# Altium footprint library AD-FMComms3_revA.PcbLib: 27 footprints (part 1 of 2)
Each footprint in its own frame and in the unit in brackets; x right, y up, seen from the top. Pads: shape width x height; smd on the part's side, far side on the other; paste and mask are expansions set on the pad; w line width, h text height; cw(c..) or ccw(c..) is an arc to the next point about the centre after c.
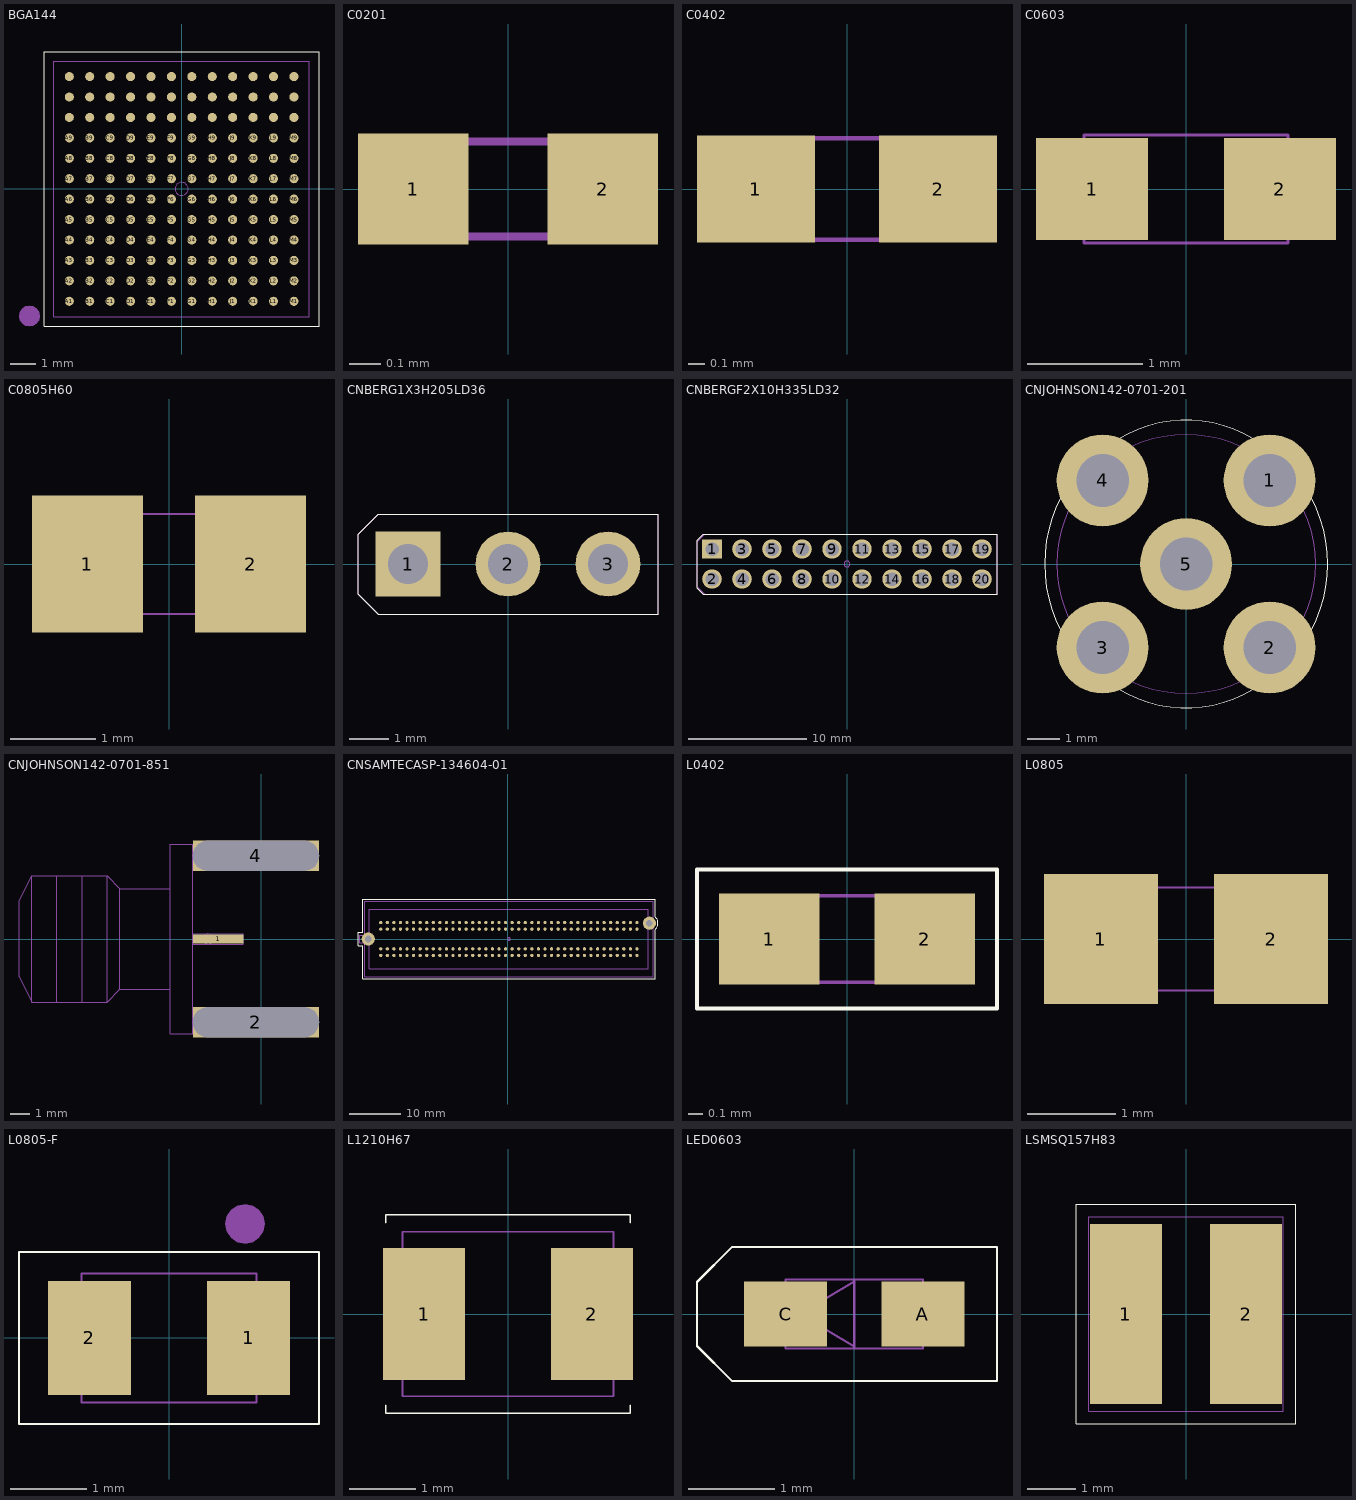
[diagram p0: the footprints below, top view; thin cyan lines are the x and y axes]

## BGA144 [mil] "BGA144"
pads (144):
  round 14 smd: A1(-173.23,-173.23) A2(-173.23,-141.73) A3(-173.23,-110.24) A4(-173.23,-78.74) A5(-173.23,-47.24) A6(-173.23,-15.75) A7(-173.23,15.75) A8(-173.23,47.24) A9(-173.23,78.74) A10(-173.23,110.24) A11(-173.23,141.73) A12(-173.23,173.23) B1(-141.73,-173.23) B2(-141.73,-141.73) B3(-141.73,-110.24) B4(-141.73,-78.74) B5(-141.73,-47.24) B6(-141.73,-15.75) B7(-141.73,15.75) B8(-141.73,47.24) B9(-141.73,78.74) B10(-141.73,110.24) B11(-141.73,141.73) B12(-141.73,173.23) C1(-110.24,-173.23) C2(-110.24,-141.73) C3(-110.24,-110.24) C4(-110.24,-78.74) C5(-110.24,-47.24) C6(-110.24,-15.75) C7(-110.24,15.75) C8(-110.24,47.24) C9(-110.24,78.74) C10(-110.24,110.24) C11(-110.24,141.73) C12(-110.24,173.23) D1(-78.74,-173.23) D2(-78.74,-141.73) D3(-78.74,-110.24) D4(-78.74,-78.74) D5(-78.74,-47.24) D6(-78.74,-15.75) D7(-78.74,15.75) D8(-78.74,47.24) D9(-78.74,78.74) D10(-78.74,110.24) D11(-78.74,141.73) D12(-78.74,173.23) E1(-47.24,-173.23) E2(-47.24,-141.73) E3(-47.24,-110.24) E4(-47.24,-78.74) E5(-47.24,-47.24) E6(-47.24,-15.75) E7(-47.24,15.75) E8(-47.24,47.24) E9(-47.24,78.74) E10(-47.24,110.24) E11(-47.24,141.73) E12(-47.24,173.23) F1(-15.75,-173.23) F2(-15.75,-141.73) F3(-15.75,-110.24) F4(-15.75,-78.74) F5(-15.75,-47.24) F6(-15.75,-15.75) F7(-15.75,15.75) F8(-15.75,47.24) F9(-15.75,78.74) F10(-15.75,110.24) F11(-15.75,141.73) F12(-15.75,173.23) G1(15.75,-173.23) G2(15.75,-141.73) G3(15.75,-110.24) G4(15.75,-78.74) G5(15.75,-47.24) G6(15.75,-15.75) G7(15.75,15.75) G8(15.75,47.24) G9(15.75,78.74) G10(15.75,110.24) G11(15.75,141.73) G12(15.75,173.23) H1(47.24,-173.23) H2(47.24,-141.73) H3(47.24,-110.24) H4(47.24,-78.74) H5(47.24,-47.24) H6(47.24,-15.75) H7(47.24,15.75) H8(47.24,47.24) H9(47.24,78.74) H10(47.24,110.24) H11(47.24,141.73) H12(47.24,173.23) J1(78.74,-173.23) J2(78.74,-141.73) J3(78.74,-110.24) J4(78.74,-78.74) J5(78.74,-47.24) J6(78.74,-15.75) J7(78.74,15.75) J8(78.74,47.24) J9(78.74,78.74) J10(78.74,110.24) J11(78.74,141.73) J12(78.74,173.23) K1(110.24,-173.23) K2(110.24,-141.73) K3(110.24,-110.24) K4(110.24,-78.74) K5(110.24,-47.24) K6(110.24,-15.75) K7(110.24,15.75) K8(110.24,47.24) K9(110.24,78.74) K10(110.24,110.24) K11(110.24,141.73) K12(110.24,173.23) L1(141.73,-173.23) L2(141.73,-141.73) L3(141.73,-110.24) L4(141.73,-78.74) L5(141.73,-47.24) L6(141.73,-15.75) L7(141.73,15.75) L8(141.73,47.24) L9(141.73,78.74) L10(141.73,110.24) L11(141.73,141.73) L12(141.73,173.23) M1(173.23,-173.23) M2(173.23,-141.73) M3(173.23,-110.24) M4(173.23,-78.74) M5(173.23,-47.24) M6(173.23,-15.75) M7(173.23,15.75) M8(173.23,47.24) M9(173.23,78.74) M10(173.23,110.24) M11(173.23,141.73) M12(173.23,173.23)
Top Overlay:
  lines w1: -211.85,-211.85 211.85,-211.85 211.85,211.85 -211.85,211.85 -211.85,-211.85
Top Component Center:
  circle w1: c0,0 r10
Mechanical34:
  text "K5" at 110.24,-67.24 h25
  text "F12" at -15.75,143.23 h25
  text "M9" at 173.23,58.74 h25
  text "M10" at 173.23,80.24 h25
  text "A9" at -173.23,58.74 h25
  text "A10" at -173.23,80.24 h25
  text "D2" at -78.74,-161.73 h25
  text "D3" at -78.74,-130.24 h25
  text "E3" at -47.24,-130.24 h25
  text "K4" at 110.24,-98.74 h25
  text "E2" at -47.24,-161.73 h25
  text "F2" at -15.75,-161.73 h25
  text "K3" at 110.24,-130.24 h25
  text "J3" at 78.74,-130.24 h25
  text "B9" at -141.73,58.74 h25
  text "B10" at -141.73,80.24 h25
  text "M11" at 173.23,111.73 h25
  text "B8" at -141.73,27.24 h25
  text "G2" at 15.75,-161.73 h25
  text "G3" at 15.75,-130.24 h25
  text "L4" at 141.73,-98.74 h25
  text "A11" at -173.23,111.73 h25
  text "B11" at -141.73,111.73 h25
  text "A5" at -173.23,-67.24 h25
  text "M5" at 173.23,-67.24 h25
  text "H9" at 47.24,58.74 h25
  text "A12" at -173.23,143.23 h25
  text "E7" at -47.24,-4.25 h25
  text "F8" at -15.75,27.24 h25
  text "D7" at -78.74,-4.25 h25
  text "E8" at -47.24,27.24 h25
  text "D8" at -78.74,27.24 h25
  text "E9" at -47.24,58.74 h25
  text "D9" at -78.74,58.74 h25
  text "E10" at -47.24,80.24 h25
  text "D10" at -78.74,80.24 h25
  text "E11" at -47.24,111.73 h25
  text "D11" at -78.74,111.73 h25
  text "E12" at -47.24,143.23 h25
  text "G7" at 15.75,-4.25 h25
  text "G1" at 15.75,-193.23 h25
  text "H8" at 47.24,27.24 h25
  text "J7" at 78.74,-4.25 h25
  text "J8" at 78.74,27.24 h25
  text "K7" at 110.24,-4.25 h25
  text "J9" at 78.74,58.74 h25
  text "K8" at 110.24,27.24 h25
  text "J10" at 78.74,80.24 h25
  text "K9" at 110.24,58.74 h25
  text "J11" at 78.74,111.73 h25
  text "K10" at 110.24,80.24 h25
  text "J12" at 78.74,143.23 h25
  text "K11" at 110.24,111.73 h25
  text "G10" at 15.75,80.24 h25
  text "H11" at 47.24,111.73 h25
  text "C3" at -110.24,-130.24 h25
  text "B3" at -141.73,-130.24 h25
  text "L5" at 141.73,-67.24 h25
  text "M3" at 173.23,-130.24 h25
  text "A3" at -173.23,-130.24 h25
  text "G9" at 15.75,58.74 h25
  text "A8" at -173.23,27.24 h25
  text "A7" at -173.23,-4.25 h25
  text "M7" at 173.23,-4.25 h25
  text "M8" at 173.23,27.24 h25
  text "G8" at 15.75,27.24 h25
  text "A2" at -173.23,-161.73 h25
  text "A1" at -173.23,-193.23 h25
  text "M1" at 173.23,-193.23 h25
  text "M2" at 173.23,-161.73 h25
  text "B4" at -141.73,-98.74 h25
  text "B5" at -141.73,-67.24 h25
  text "B6" at -141.73,-35.75 h25
  text "B7" at -141.73,-4.25 h25
  text "F10" at -15.75,80.24 h25
  text "G11" at 15.75,111.73 h25
  text "G4" at 15.75,-98.74 h25
  text "F4" at -15.75,-98.74 h25
  text "F5" at -15.75,-67.24 h25
  text "F6" at -15.75,-35.75 h25
  text "E6" at -47.24,-35.75 h25
  text "E5" at -47.24,-67.24 h25
  text "E4" at -47.24,-98.74 h25
  text "D4" at -78.74,-98.74 h25
  text "D5" at -78.74,-67.24 h25
  text "D6" at -78.74,-35.75 h25
  text "C6" at -110.24,-35.75 h25
  text "C5" at -110.24,-67.24 h25
  text "J6" at 78.74,-35.75 h25
  text "H5" at 47.24,-67.24 h25
  text "M12" at 173.23,143.23 h25
  text "H12" at 47.24,143.23 h25
  text "H4" at 47.24,-98.74 h25
  text "K6" at 110.24,-35.75 h25
  text "L6" at 141.73,-35.75 h25
  text "J4" at 78.74,-98.74 h25
  text "J5" at 78.74,-67.24 h25
  text "F11" at -15.75,111.73 h25
  text "L1" at 141.73,-193.23 h25
  text "H3" at 47.24,-130.24 h25
  text "L7" at 141.73,-4.25 h25
  text "H10" at 47.24,80.24 h25
  text "K12" at 110.24,143.23 h25
  text "F7" at -15.75,-4.25 h25
  text "G12" at 15.75,143.23 h25
  text "C12" at -110.24,143.23 h25
  text "B12" at -141.73,143.23 h25
  text "D12" at -78.74,143.23 h25
  text "C11" at -110.24,111.73 h25
  text "C10" at -110.24,80.24 h25
  text "C9" at -110.24,58.74 h25
  text "M4" at 173.23,-98.74 h25
  text "L2" at 141.73,-161.73 h25
  text "K2" at 110.24,-161.73 h25
  text "H2" at 47.24,-161.73 h25
  text "M6" at 173.23,-35.75 h25
  text "L11" at 141.73,111.73 h25
  text "H7" at 47.24,-4.25 h25
  text "L12" at 141.73,143.23 h25
  text "L8" at 141.73,27.24 h25
  text "L9" at 141.73,58.74 h25
  text "J1" at 78.74,-193.23 h25
  text "J2" at 78.74,-161.73 h25
  text "F1" at -15.75,-193.23 h25
  text "E1" at -47.24,-193.23 h25
  text "C7" at -110.24,-4.25 h25
  text "A6" at -173.23,-35.75 h25
  text "F9" at -15.75,58.74 h25
  text "B1" at -141.73,-193.23 h25
  text "B2" at -141.73,-161.73 h25
  text "C2" at -110.24,-161.73 h25
  text "C4" at -110.24,-98.74 h25
  text "F3" at -15.75,-130.24 h25
  text "L3" at 141.73,-130.24 h25
  text "K1" at 110.24,-193.23 h25
  text "H6" at 47.24,-35.75 h25
  text "C8" at -110.24,27.24 h25
  text "L10" at 141.73,80.24 h25
  text "C1" at -110.24,-193.23 h25
  text "H1" at 47.24,-193.23 h25
  text "D1" at -78.74,-193.23 h25
  text "A4" at -173.23,-98.74 h25
  text "G5" at 15.75,-67.24 h25
  text "G6" at 15.75,-35.75 h25
Mechanical39:
  text "BGA144" at 0,372.13 h50
  text "C14" at -15.75,-520.63 h50
  text "VIA1206" at -15.75,-675.43 h50
Top Assembly:
  dashed: -234.74,-179.97 -228.6,-181.19 -223.39,-184.67 -219.91,-189.88 -218.68,-196.03 -219.91,-202.17 -221.07,-203.92 -223.39,-207.38 -228.6,-210.86 -234.74,-212.08 -240.88,-210.86 -246.09,-207.38 -248.41,-203.92 -249.57,-202.17 -250.8,-196.03 -249.57,-189.88 -246.09,-184.67 -240.88,-181.19
  lines w1: -196.85,-196.85 196.85,-196.85 196.85,196.85 -196.85,196.85 -196.85,-196.85
  text "AD9361BBCZ" at 0,-50 h25
  text ".Designator" at -23.5,-82.5 h50
  text "UPN" at 0,-230 h25
Top Component Outline:
  text "16JUL08" at -433.07,-76.9 h30.98
  text "ADI/LCL" at -474.22,-74.43 h30.98
  text "QA/MER" at 442.91,-84.19 h30.98
  text "18JUL08" at 483.5,-97.16 h30.98
  text "QA/JMTG" at 550.68,-96.58 h30.98
  text "22JUN09" at 597.18,-97.16 h30.98
Mechanical45:
  text "USED A .010\" LINE WIDTH AND VIA1206 FOR FANOUTS" at 19.69,-1059.07 h25
  text "VIA SIZE AND LINE WIDTH CAN BE INCREASED / DECREASED" at 8.91,-1152.61 h25
  text "AT THE DISCRETION OF THE DESIGNER" at -13.83,-1005.24 h25

## C0201 [mil] "C0201"
pads (2):
  rect 14x14 smd: 1(-12,0) 2(12,0)
Mechanical34:
  text "2" at 12,10 h25
  text "1" at -12,10 h25
Mechanical39:
  text "C0201" at 11,197 h50
  text "14X14" at 7.6,-24 h50
Top Assembly:
  lines w1: -12,-6 -12,6 12,6 12,-6 -12,-6
  text "0.1uF" at -10.2,50 h25
  text "10" at 35,20 h25
  text "UPN" at 65,30 h25
Top Component Outline:
  text "ADI/DML" at -160,86.8 h31
  text "10XXX09" at 185,86.8 h31
  text "14JAN09" at -115,86.8 h31
  text "QA/XXX" at 145,74.4 h31

## C0402 [mil] "C0402"
pads (2):
  rect 27.5x25 smd: 1(-21.25,0) 2(21.25,0)
Mechanical34:
  text "1" at -21.25,-10 h25
  text "2" at 21.25,-10 h25
Mechanical39:
  text "27.5x25x15" at 0,-254 h31
  text "C0402" at -5,-5 h50
Top Assembly:
  lines w1: -21.65,-11.81 -21.65,11.81 21.65,11.81 21.65,-11.81 -21.65,-11.81
  text "UPN" at 0.79,-98.5 h25
  text "10" at 4.72,-73.94 h25
  text ".Designator" at -87.5,-126.75 h31
  text "1uF" at 4.33,-44.17 h25

## C0603 [mil] "C0603"
pads (2):
  rect 38.5x35 smd: 1(-32.25,0) 2(32.25,0)
Mechanical34:
  text "2" at 32.25,-10 h25
  text "1" at -32.25,-10 h25
Mechanical39:
  text "C0603a" at -5,-25 h50
  text "38.5x35x26" at 0,-230 h25
Top Assembly:
  lines w1: -35,-18.5 35,-18.5 35,18.5 -35,18.5 -35,-18.5
  text "10UF" at 2,-51 h25
  text ".Designator" at -17.5,5.73 h31
  text "20" at -70,-20 h25
  text "UPN" at 124,-31 h25

## C0805H60 [mil] "C0805H60"
pads (2):
  rect 51x63 smd: 1(-37.5,0) 2(37.5,0)
Mechanical34:
  text "1" at -27.5,0 h25
  text "2" at 47.5,0 h25
Mechanical39:
  text "51X63" at 100,-125 h50
  text "C0805H60" at 162,127.3 h50
Top Assembly:
  lines w1: -43,-23 -4,-23 43,-23 43,23 -43,23 -43,-23
  text "UPN" at 90,0 h25
  text "10" at 50,0 h25
  text "47uF" at 5,0 h25
Top Component Outline:
  text "08OCT98" at 286.8,0 h31
  text "QA/AA" at 220.4,2 h31
  text "CEXI/CWB" at -75.8,0 h31
  text "21SEP98" at -48.9,3 h31

## CNBERG1X3H205LD36 [mil] "CNBERG1X3H205LD36"
pads (3):
  rect 65x65 / inner round 65 / far side rect 65x65 hole 40: 1(-100,0)
  round 65 hole 40: 2(0,0) 3(100,0)
Top Overlay:
  lines w1: -150,-30 -150,30 -130,50 150,50 150,-50 -130,-50 -150,-30
Mechanical34:
  text "1" at -110,0 h25
  text "3" at 90,0 h25
  text "2" at -10,0 h25
Mechanical39:
  text "CNBERG1X3H205LD36" at -295,125 h50
  text "C65D40" at -65,-220 h50
  text "S65D40" at -65,-145 h50
Top Assembly:
  lines w1: -150,-30 -130,-50 150,-50 150,50 -130,50 -150,30 -150,-30
  text "SAMTECTSW10608GS3PIN" at -250,0 h25
  text "UPN" at 230,0 h25
  text "1" at -120,-110 h50
Top Component Outline:
  text "ADI/DML" at -341.8,0 h31
  text "23FEB08" at -281.8,0 h31
  text "QA/XXX" at 250.6,-5 h31
  text "04FEB02" at 288.2,-5 h31

## CNBERGF2X10H335LD32 [mil] "CNBERGF2X10H335LD32"
pads (20):
  rect 65x65 / inner round 65 / far side rect 65x65 hole 45: 1(-450,50)
  round 65 hole 45: 2(-450,-50) 3(-350,50) 4(-350,-50) 5(-250,50) 6(-250,-50) 7(-150,50) 8(-150,-50) 9(-50,50) 10(-50,-50) 11(50,50) 12(50,-50) 13(150,50) 14(150,-50) 15(250,50) 16(250,-50) 17(350,50) 18(350,-50) 19(450,50) 20(450,-50)
Top Overlay:
  lines w1: -500,-80 -480,-100 500,-100 500,100 -480,100 -500,80 -500,-80
Top Component Center:
  circle w1: c0,0 r10
Mechanical34:
  text "16" at 230,-50 h25
  text "15" at 230,50 h25
  text "14" at 130,-50 h25
  text "13" at 130,50 h25
  text "12" at 30,-50 h25
  text "4" at -360,-50 h25
  text "5" at -260,50 h25
  text "6" at -260,-50 h25
  text "7" at -160,50 h25
  text "8" at -160,-50 h25
  text "9" at -60,50 h25
  text "10" at -70,-50 h25
  text "11" at 30,50 h25
  text "17" at 330,50 h25
  text "18" at 330,-50 h25
  text "19" at 430,50 h25
  text "20" at 430,-50 h25
  text "2" at -460,-50 h25
  text "3" at -360,50 h25
  text "1" at -460,50 h25
Mechanical39:
  text "CNBERGF2X10H335LD32" at -380,175 h50
  text "S65D45" at -120,-162.5 h50
  text "C65D45" at -120,-237.5 h50
Top Assembly:
  lines w1: -500,-75 -475,-100 500,-100 500,100 -475,100 -500,75 -500,-75
  text "SSW-110-02-G-D" at -527.5,0 h25
  text "UPN" at 382.5,0 h25
Top Component Outline:
  text "09APR99" at -636.8,0 h31
  text "CEXI/BTC" at -699.2,0 h31
  text "09APR99" at 513.2,0 h31
  text "ADI/PMA" at 463.2,0 h31

## CNJOHNSON142-0701-201 [mil] "CNJOHNSON142-0701-201"
pads (5):
  round 110 hole 63: 1(100,100) 2(100,-100) 3(-100,-100) 4(-100,100) 5(0,0)
Top Overlay:
  lines w1: -150,-80 cw(c4.99,0) -150,80 ; -80,-150 ccw(c0,-17.6) 80,-150 ; -80,150 cw(c0,17.6) 80,150 ; 150,-80 ccw(c-5.2,0) 150,80
Top Component Center:
  circle w1: c0,0 r10
Mechanical34:
  text "2" at 90,-100 h25
  text "5" at 90,100 h25
  text "4" at -110,100 h25
  text "3" at -110,-100 h25
  text "1" at -10,0 h25
Mechanical39:
  text "CNJOHNSON142-0701-201" at -420,-265 h50
  text "C110D63" at -140,285 h50
Top Assembly:
  circle w1: c0,0 r155
  text "142-0701-201" at -241,0 h25
  text "UPN" at 70,-1 h25
  text ".Designator" at -100.8,30 h63
Top Component Outline:
  text "ADI/DML" at 153.2,0 h31
  text "09DEC98" at 98.2,0 h31
  text "QA/XXX" at -284.4,0 h31
  text "18DXX08" at -351.8,0 h31

## CNJOHNSON142-0701-851 [mil] "CNJOHNSON142-0701-851"
pads (5):
  rect 100x17 smd: 1(-85,0)
  rect 250x60 / inner oval 250x60 / far side rect 250x60 hole 60 slot 250 at 0 deg: 2(-10,-165) 4(-10,165)
  round 12 smd: 3(-10,-165) 5(-10,165)
Top Component Center:
  circle w1: c-105,0 r10
Mechanical34:
  text "1" at -95,0 h25
  text "3" at -20,-165 h25
  text "2" at -20,-165 h25
  text "4" at -20,165 h25
  text "5" at -20,165 h25
Mechanical39:
  text "CNJOHNSON142-0701-851" at -530,-245 h50
  text "200X60TOP" at -360,350 h50
  text "100X30TOP" at -360,425 h50
  text "200X60BOT" at -360,500 h50
Top Assembly:
  lines w1: -455,100 -455,125 ; -405,-125 -405,100 ; -355,-125 -355,125 ; -305,100 -305,125 ; -180,-100 -280,-100 ; -180,100 -280,100 ; -135,-142.5 70,-142.5 70,-187.5 -135,-187.5 ; -135,-10 -35,-10 -35,10 -135,10 ; -135,142.5 70,142.5 70,187.5 -135,187.5 ; -455,-125 -455,-100 ; -455,-125 -305,-125 ; -455,-125 -455,-100 ; -455,-125 -455,-100 ; -455,-125 -480,-75 -480,75 -455,125 ; -455,-100 -455,125 ; -455,125 -305,125 ; -405,100 -405,125 -405,100 ; -305,-125 -305,105 -305,125 ; -305,-125 -280,-100 ; -305,125 -280,100 ; -280,-100 -280,-75 ; -280,-100 -280,-75 ; -280,-75 -280,75 -280,100 ; -135,-187.5 -180,-187.5 -180,187.5 -135,187.5 ; -135,-187.5 -135,187.5
  text "JOHNSON142-0701-851" at -50,0 h25
  text "UPN" at -40,0 h25
Top Component Outline:
  text "CEXI/GSR" at 162.6,0 h32
  text "4MAR99" at 138.2,5 h32
  text "QA/BTC" at -606.8,0 h32
  text "05MAR99" at -669.6,0 h32

## CNSAMTECASP-134604-01 [mil] "CNSAMTECASP-134604-01"
pads (162):
  round 25 smd: C1(-968.5,-125) C2(-918.5,-125) C3(-868.5,-125) C4(-818.5,-125) C5(-768.5,-125) C6(-718.5,-125) C7(-668.5,-125) C8(-618.5,-125) C9(-568.5,-125) C10(-518.5,-125) C11(-468.5,-125) C12(-418.5,-125) C13(-368.5,-125) C14(-318.5,-125) C15(-268.5,-125) C16(-218.5,-125) C17(-168.5,-125) C18(-118.5,-125) C19(-68.5,-125) C20(-18.5,-125) C21(31.5,-125) C22(81.5,-125) C23(131.5,-125) C24(181.5,-125) C25(231.5,-125) C26(281.5,-125) C27(331.5,-125) C28(381.5,-125) C29(431.5,-125) C30(481.5,-125) C31(531.5,-125) C32(581.5,-125) C33(631.5,-125) C34(681.5,-125) C35(731.5,-125) C36(781.5,-125) C37(831.5,-125) C38(881.5,-125) C39(931.5,-125) C40(981.5,-125) D1(-968.5,-75) D2(-918.5,-75) D3(-868.5,-75) D4(-818.5,-75) D5(-768.5,-75) D6(-718.5,-75) D7(-668.5,-75) D8(-618.5,-75) D9(-568.5,-75) D10(-518.5,-75) D11(-468.5,-75) D12(-418.5,-75) D13(-368.5,-75) D14(-318.5,-75) D15(-268.5,-75) D16(-218.5,-75) D17(-168.5,-75) D18(-118.5,-75) D19(-68.5,-75) D20(-18.5,-75) D21(31.5,-75) D22(81.5,-75) D23(131.5,-75) D24(181.5,-75) D25(231.5,-75) D26(281.5,-75) D27(331.5,-75) D28(381.5,-75) D29(431.5,-75) D30(481.5,-75) D31(531.5,-75) D32(581.5,-75) D33(631.5,-75) D34(681.5,-75) D35(731.5,-75) D36(781.5,-75) D37(831.5,-75) D38(881.5,-75) D39(931.5,-75) D40(981.5,-75) G1(-968.5,75) G2(-918.5,75) G3(-868.5,75) G4(-818.5,75) G5(-768.5,75) G6(-718.5,75) G7(-668.5,75) G8(-618.5,75) G9(-568.5,75) G10(-518.5,75) G11(-468.5,75) G12(-418.5,75) G13(-368.5,75) G14(-318.5,75) G15(-268.5,75) G16(-218.5,75) G17(-168.5,75) G18(-118.5,75) G19(-68.5,75) G20(-18.5,75) G21(31.5,75) G22(81.5,75) G23(131.5,75) G24(181.5,75) G25(231.5,75) G26(281.5,75) G27(331.5,75) G28(381.5,75) G29(431.5,75) G30(481.5,75) G31(531.5,75) G32(581.5,75) G33(631.5,75) G34(681.5,75) G35(731.5,75) G36(781.5,75) G37(831.5,75) G38(881.5,75) G39(931.5,75) G40(981.5,75) H1(-968.5,125) H2(-918.5,125) H3(-868.5,125) H4(-818.5,125) H5(-768.5,125) H6(-718.5,125) H7(-668.5,125) H8(-618.5,125) H9(-568.5,125) H10(-518.5,125) H11(-468.5,125) H12(-418.5,125) H13(-368.5,125) H14(-318.5,125) H15(-268.5,125) H16(-218.5,125) H17(-168.5,125) H18(-118.5,125) H19(-68.5,125) H20(-18.5,125) H21(31.5,125) H22(81.5,125) H23(131.5,125) H24(181.5,125) H25(231.5,125) H26(281.5,125) H27(331.5,125) H28(381.5,125) H29(431.5,125) H30(481.5,125) H31(531.5,125) H32(581.5,125) H33(631.5,125) H34(681.5,125) H35(731.5,125) H36(781.5,125) H37(831.5,125) H38(881.5,125) H39(931.5,125) H40(981.5,125)
  round 100 hole 50 unplated: ""(-1063.5,0) ""(1076.5,120)
Top Overlay:
  lines w1: -1141.5,-49.72 -1106.5,-49.72 -1106.5,-304 1119.5,-304 1119.5,71.26 ccw(c1076.51,120) 1119.5,168.74 1119.5,304 -1106.5,304 -1106.5,49.72 -1141.5,49.72 -1141.5,-49.72
Top Component Center:
  circle w1: c6.5,0 r10
Mechanical34:
  text "C2" at -910.16,-121.66 h25
  text "C22" at 89.84,-111.66 h25
  text "C23" at 139.84,-111.66 h25
  text "C3" at -860.16,-121.66 h25
  text "C6" at -710.16,-121.66 h25
  text "C7" at -660.16,-121.66 h25
  text "D20" at -10.16,-36.66 h25
  text "D21" at 39.84,-36.66 h25
  text "D29" at 439.84,-36.66 h25
  text "D33" at 639.84,-36.66 h25
  text "D34" at 689.84,-36.66 h25
  text "D4" at -810.16,-46.66 h25
  text "D5" at -760.16,-46.66 h25
  text "G2" at -910.17,103.33 h25
  text "G3" at -860.17,103.33 h25
  text "G30" at 489.83,113.33 h25
  text "G31" at 539.83,113.33 h25
  text "G33" at 639.83,113.33 h25
  text "G34" at 689.83,113.33 h25
  text "G36" at 789.83,113.33 h25
  text "G37" at 839.83,113.33 h25
  text "H1" at -960.17,178.33 h25
  text "H32" at 589.83,188.33 h25
  text "H34" at 689.83,188.33 h25
  text "H35" at 739.83,188.33 h25
  text "H37" at 839.83,188.33 h25
  text "H38" at 889.83,188.33 h25
  text "H5" at -760.17,178.33 h25
  text "G18" at -110.17,113.33 h25
  text "H22" at 89.83,188.33 h25
  text "H2" at -910.17,178.33 h25
  text "H3" at -860.17,178.33 h25
  text "H6" at -710.17,178.33 h25
  text "H9" at -560.17,178.33 h25
  text "H12" at -410.17,188.33 h25
  text "H15" at -260.17,188.33 h25
  text "H18" at -110.17,188.33 h25
  text "H21" at 39.83,188.33 h25
  text "H24" at 189.83,188.33 h25
  text "H27" at 339.83,188.33 h25
  text "H30" at 489.83,188.33 h25
  text "H33" at 639.83,188.33 h25
  text "H36" at 789.83,188.33 h25
  text "H39" at 939.83,188.33 h25
  text "C1" at -960.16,-121.66 h25
  text "C4" at -810.16,-121.66 h25
  text "C5" at -760.16,-121.66 h25
  text "C8" at -610.16,-121.66 h25
  text "C9" at -560.16,-121.66 h25
  text "C12" at -410.16,-111.66 h25
  text "C13" at -360.16,-111.66 h25
  text "C16" at -210.16,-111.66 h25
  text "C17" at -160.16,-111.66 h25
  text "C20" at -10.16,-111.66 h25
  text "C21" at 39.84,-111.66 h25
  text "C24" at 189.84,-111.66 h25
  text "C25" at 239.84,-111.66 h25
  text "C28" at 389.84,-111.66 h25
  text "C29" at 439.84,-111.66 h25
  text "C32" at 589.84,-111.66 h25
  text "C33" at 639.84,-111.66 h25
  text "C36" at 789.84,-111.66 h25
  text "C38" at 889.84,-111.66 h25
  text "C40" at 989.84,-111.66 h25
  text "D2" at -910.16,-46.66 h25
  text "D3" at -860.16,-46.66 h25
  text "D6" at -710.16,-46.66 h25
  text "D7" at -660.16,-46.66 h25
  text "D10" at -510.16,-36.66 h25
  text "D13" at -360.16,-36.66 h25
  text "D16" at -210.16,-36.66 h25
  text "D19" at -60.16,-36.66 h25
  text "D22" at 89.84,-36.66 h25
  text "D25" at 239.84,-36.66 h25
  text "D28" at 389.84,-36.66 h25
  text "D37" at 839.84,-36.66 h25
  text "D39" at 939.84,-36.66 h25
  text "G1" at -960.17,103.33 h25
  text "G4" at -810.17,103.33 h25
  text "G5" at -760.17,103.33 h25
  text "G8" at -610.17,103.33 h25
  text "G11" at -460.17,113.33 h25
  text "G14" at -310.17,113.33 h25
  text "G17" at -160.17,113.33 h25
  text "G20" at -10.17,113.33 h25
  text "G23" at 139.83,113.33 h25
  text "G26" at 289.83,113.33 h25
  text "G29" at 439.83,113.33 h25
  text "G32" at 589.83,113.33 h25
  text "G35" at 739.83,113.33 h25
  text "G38" at 889.83,113.33 h25
  text "G40" at 989.83,113.33 h25
  text "C26" at 289.84,-111.66 h25
  text "C27" at 339.84,-111.66 h25
  text "D26" at 289.84,-36.66 h25
  text "G19" at -60.17,113.33 h25
  text "H23" at 139.83,188.33 h25
  text "H4" at -810.17,178.33 h25
  text "H28" at 389.83,188.33 h25
  text "H29" at 439.83,188.33 h25
  text "G27" at 339.83,113.33 h25
  text "G28" at 389.83,113.33 h25
  text "G21" at 39.83,113.33 h25
  text "G22" at 89.83,113.33 h25
  text "H25" at 239.83,188.33 h25
  text "H26" at 289.83,188.33 h25
  text "G24" at 189.83,113.33 h25
  text "G25" at 239.83,113.33 h25
  text "D23" at 139.84,-36.66 h25
  text "D24" at 189.84,-36.66 h25
  text "G6" at -710.17,103.33 h25
  text "G12" at -410.17,113.33 h25
  text "D8" at -610.16,-46.66 h25
  text "D14" at -310.16,-36.66 h25
  text "C35" at 739.84,-111.66 h25
  text "C37" at 839.84,-111.66 h25
  text "H40" at 989.83,188.33 h25
  text "G39" at 939.83,113.33 h25
  text "D32" at 589.84,-36.66 h25
  text "C39" at 939.84,-111.66 h25
  text "D36" at 789.84,-36.66 h25
  text "D38" at 889.84,-36.66 h25
  text "D40" at 989.84,-36.66 h25
  text "G7" at -660.17,103.33 h25
  text "G13" at -360.17,113.33 h25
  text "C34" at 689.84,-111.66 h25
  text "D35" at 739.84,-36.66 h25
  text "D1" at -960.16,-46.66 h25
  text "H8" at -610.17,178.33 h25
  text "H7" at -660.17,178.33 h25
  text "G10" at -510.17,113.33 h25
  text "G9" at -560.17,103.33 h25
  text "H11" at -460.17,188.33 h25
  text "H10" at -510.17,188.33 h25
  text "D12" at -410.16,-36.66 h25
  text "D11" at -460.16,-36.66 h25
  text "C11" at -460.16,-111.66 h25
  text "C10" at -510.16,-111.66 h25
  text "H14" at -310.17,188.33 h25
  text "H13" at -360.17,188.33 h25
  text "D9" at -560.16,-46.66 h25
  text "C30" at 489.84,-111.66 h25
  text "C31" at 539.84,-111.66 h25
  text "H17" at -160.17,188.33 h25
  text "H16" at -210.17,188.33 h25
  text "G16" at -210.17,113.33 h25
  text "G15" at -260.17,113.33 h25
  text "D18" at -110.16,-36.66 h25
  text "D17" at -160.16,-36.66 h25
  text "C15" at -260.16,-111.66 h25
  text "C14" at -310.16,-111.66 h25
  text "C19" at -60.16,-111.66 h25
  text "C18" at -110.16,-111.66 h25
  text "H20" at -10.17,188.33 h25
  text "H19" at -60.17,188.33 h25
  text "D15" at -260.16,-36.66 h25
  text "D30" at 489.84,-36.66 h25
  text "D31" at 539.84,-36.66 h25
  text "H31" at 539.83,188.33 h25
  text "D27" at 339.84,-36.66 h25
Mechanical39:
  text "NP50" at 31.5,-520 h50
  text "C25" at 14.4,-459.63 h50
  text "CNSAMTECASP-134604-01" at 13.5,889.33 h50
Top Assembly:
  lines w1: -1126.5,-30 -1126.5,30 -1091.5,30 -1091.5,289 1104.5,289 1104.5,-289 -1091.5,-289 -1091.5,-30 -1126.5,-30 ; -1054.5,-226 1067.5,-226 1067.5,226 -1054.5,226 -1054.5,-226
  text "G1" at -1148.2,100.03 h50
  text "D1" at -1152.2,-66.97 h50
  text "D40" at 1203.8,-36.97 h50
  text "G40" at 1198.8,90.03 h50
  text "C40" at 1003.8,-339.97 h50
  text "C30" at 482.8,-338.97 h50
  text "H30" at 470.1,405.53 h50
  text "H20" at -30.9,401.53 h50
  text "C20" at -19.2,-334.97 h50
  text "C10" at -501.2,-336.97 h50
  text "H10" at -511.9,402.53 h50
  text "C1" at -979.2,-362.97 h50
  text "H1" at -972.1,381.43 h50
  text "UPN" at 156.5,30 h25
  text "ASP-134604-01" at -43.5,130 h25
Top Component Outline:
  text "14JUN11" at 1505.39,84.2 h31
  text "QA/GMC" at 1456.84,79.9 h31
  text "26SEP09" at 1380.39,84.2 h31
  text "QA/JMTG" at 1331.84,92.3 h31
  text "ADI/GMC" at -1287.97,91.2 h31
  text "25SEP09" at -1237.58,87.4 h31

## L0402 [mil] "L0402"
pads (2):
  rect 27.5x25 smd: 1(-21.25,0) 2(21.25,0)
Top Overlay:
  lines w1: -41,-19 41,-19 41,19 -41,19 -41,-19
Mechanical34:
  text "1" at -21.25,-10 h25
  text "2" at 21.25,-10 h25
Mechanical39:
  text "27.5x25x15" at 0,-254 h31
  text "L0402" at -5,-5 h50
Top Assembly:
  lines w1: -21.65,-11.81 -21.65,11.81 21.65,11.81 21.65,-11.81 -21.65,-11.81
  text "UPN" at 0.79,-98.5 h25
  text "25" at 4.72,-73.94 h25
  text ".Designator" at -85,-34.6 h31
  text "75OHM" at 4.33,-64.17 h25

## L0805 [mil] "L0805"
pads (2):
  rect 51x58 smd: 1(-38,0) 2(38,0)
Mechanical34:
  text "2" at 38,10 h25
  text "1" at -38,10 h25
Mechanical39:
  text "L0805A" at 0,245 h50
  text "51X58X26" at 0,-45 h25
Top Assembly:
  lines w1: -43,-23 -4,-23 43,-23 43,23 -43,23 -43,-23
  text ".Designator" at -7.5,-12.9 h31
  text "39OHM" at -35,50 h25
  text "N/A" at 30,30 h25
  text "UPN" at 60,30 h25

## L0805-F [mil] "L0805-F"
pads (2):
  rect 43x59 smd: 1(41.19,0) 2(-41.19,0)
Top Overlay:
  lines w1: -77.69,-44.5 77.69,-44.5 77.69,44.5 -77.69,44.5 -77.69,-44.5
Mechanical34:
  text "1" at 21.19,0 h25
  text "2" at -61.19,0 h25
Mechanical39:
  text "43X59" at -100,150 h50
  text "L0805-F" at -140,-150 h50
Top Assembly:
  dashed: 49.57,59.06 48.79,55.15 46.58,51.85 43.27,49.64 39.37,48.86 35.47,49.64 34.36,50.38 32.16,51.85 29.95,55.15 29.17,59.06 29.95,62.96 32.16,66.26 34.36,67.73 35.47,68.47 39.37,69.25 43.27,68.47 46.58,66.26 48.79,62.96
  lines w1: -45.28,-33.46 45.28,-33.46 45.28,33.46 -45.28,33.46 -45.28,-33.46
  text ".Designator" at 70.2,39 h31
  text "330nH" at -15,0 h25
  text "5" at -40,0 h25
  text "UPN" at -90,0 h25
Top Component Outline:
  text "ADI/AVB" at 113.2,0 h31
  text "16JUN07" at 63.2,0 h31
  text "QA/LCL" at -249.4,0 h31
  text "19JUN07" at -311.8,0 h31

## L1210H67 [mil] "L1210H67"
pads (2):
  rect 49x79 smd: 1(-50.09,0) 2(50.09,0)
Top Overlay:
  lines w1: -72.99,-54.5 -72.99,-59.21 72.99,-59.21 72.99,-54.5 ; -72.99,54.5 -72.99,59.21 72.99,59.21 72.99,54.5
Mechanical34:
  text "2" at 58.09,11.67 h25
  text "1" at -42.09,11.67 h25
Mechanical39:
  text "79X49" at 0,-64.31 h50
  text "L1210H67" at 0,290.97 h50
Top Assembly:
  lines w1: -62.99,-49.21 -62.99,49.21 62.99,49.21 62.99,-49.21 -62.99,-49.21
  text "UPN" at 67.39,30 h25
  text "30" at 28.02,20 h25
  text "0.47uH" at -11.35,60 h25
  text ".Designator" at 0,24.6 h31
Top Component Outline:
  text "ADI/RGS" at -137.3,86.8 h31
  text "06JUN12" at -97.93,86.8 h31
  text "QA/JSM" at 128.44,74.4 h31
  text "06JUN12" at 167.81,86.8 h31

## LED0603 [mil] "LED0603"
pads (2):
  rect 38x30 smd: A(31.5,0) C(-31.5,0)
Top Overlay:
  lines w1: -72.1,-14.7 -56,-30.8 65.5,-30.8 65.5,30.8 -56,30.8 -72.1,14.7 -72.1,-14.7
Mechanical34:
  text "C" at -41.5,0 h25
  text "A" at 21.5,0 h25
Mechanical39:
  text "LED0603" at -140,125 h50
  text "38X30" at -100,-100 h50
Top Assembly:
  lines w1: -31.5,-15.8 31.5,-15.8 31.5,15.8 -31.5,15.8 -31.5,-15.8 ; -25,0 0,-15 0,15 -25,0
  text "LNJ308G8TRA (green)" at -220,0 h25
  text ".Designator" at -100.8,-25 h63
  text "N/A" at 5,0 h25
  text "UPN" at 35,0 h25
Top Component Outline:
  text "ADI/JJA" at -236.8,0 h31
  text "13OCT04" at 88.2,0 h31
  text "06OCT04" at -186.8,0 h31
  text "QA/LES" at 50.6,0 h31

## LSMSQ157H83 [mil] "LSMSQ157H83"
pads (2):
  rect 58x145 smd: 1(-48.5,0) 2(48.5,0)
Top Overlay:
  lines w1: -88.5,-88.5 88.5,-88.5 88.5,88.5 -88.5,88.5 -88.5,-88.5
Mechanical34:
  text "2" at 76.5,-8.33 h25
  text "1" at -20.5,-8.33 h25
Mechanical39:
  text "58X145" at 120,-176.67 h50
  text "LSMSQ157H83" at 220,163.33 h50
Top Assembly:
  lines w1: -78.5,-78.5 -78.5,78.5 78.5,78.5 78.5,-78.5 -78.5,-78.5
  text "UPN" at 30,-68.34 h25
  text "20" at 20,-28.34 h25
  text "2.2uH" at 50,11.67 h25
  text ".Designator" at 44.6,12.84 h31
Top Component Outline:
  text "ADI/RGS" at -82.87,0 h31
  text "03DEC10" at -42.87,0 h31
  text "03DEC10" at 277.14,0 h31
  text "QA/KJBN" at 237.14,0 h31